# EAGLE library part 638307122007 (library Wurth_Connectors_WR-FAST)
WR-FAST 7.62 mm THT Male Header Angled Blade 2863 KIND PROPERTIES Pitch 7.62 mm Gender Male MATERIAL PROPERTIES Insulator Material PC Insulator Flammability Rating UL94 V-0 Insulator Color Black Contact Material Steel Contact Plating Tin Contact Type Stamped GENERAL INFORMATION Operating Temperature -30 up to +120 °C Working Voltage 300 V (AC) Withstanding Voltage 1600 V (AC) Contact Resistance 20 mΩ RISO 5 MΩ IR 16 A CERTIFICATION cULus Approval E150931 PACKAGING PROPERTIES Packaging Box <https://www.we-online.com/catalog/media/o161726v209%20Family_WR-FAST_638307122004.jpg> Details see: https://www.we-online.com/catalog/en/FAST_7_6_2_THT_MALE_ANGLED_6383071220XX/ updated by Ella Wu 2020-08-11 2020(C) Wurth Elektronik
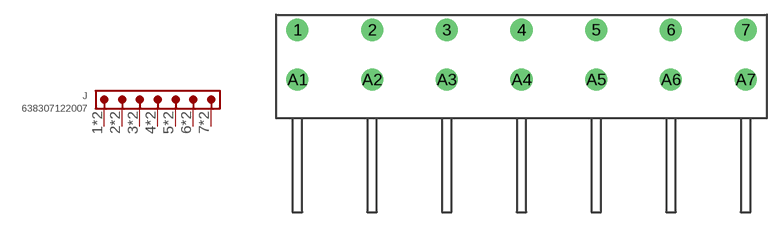
[diagram p12: symbol with the pads of 638307122007; footprint 638307122007]

Designator prefix J

## 638307122007 (CONTACT-RESISTANCE: 20mOhm; DATASHEET-URL: https://www.we-online.com/catalog/datasheet/638307122007.pdf; GENDER: Male; IR: 16A; MOUNT: THT; PART-NUMBER: 638307122007; PINS: 7; PITCH: 7.62mm; TYPE: Right Angled; VALUE: 638307122007; WORKING-VOLTAGE: 300V(AC))  [638307122007]
1  1  pas
2  2  pas
3  3  pas
4  4  pas
5  5  pas
6  6  pas
7  7  pas
A1  1  pas
A2  2  pas
A3  3  pas
A4  4  pas
A5  5  pas
A6  6  pas
A7  7  pas

## Footprint 638307122007 (pad centres in mm)
WR-FAST 7.62 mm THT Male Header Angled Blade 2863 7pins
drill 1.5: 1 -22.86,2.54; 2 -15.24,2.54; 3 -7.62,2.54; 4 0,2.54; 5 7.62,2.54; 6 15.24,2.54; 7 22.86,2.54; A1 -22.86,-2.54; A2 -15.24,-2.54; A3 -7.62,-2.54; A4 0,-2.54; A5 7.62,-2.54; A6 15.24,-2.54; A7 22.86,-2.54